# EAGLE library part CP2102-GMR (library rfglow-esp32)
CP2102-GMR
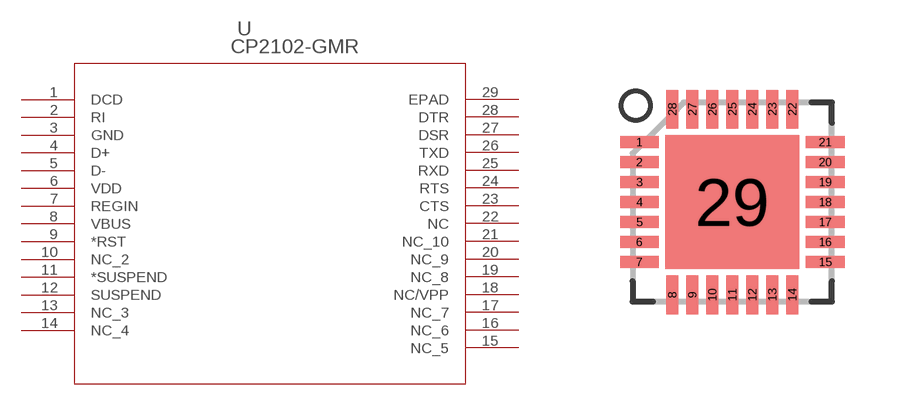
[diagram p3: symbol with the pads of QFN28_5X5; footprint QFN28_5X5]

Designator prefix U

## CP2102-GMR (AVAILABILITY: Unavailable; MF: Silicon; MPN: CP2102-GMR; PACKAGE: VFQFN-28 Vishay Siliconix; PRICE: None; URL: https://lcsc.com/product-detail/USB_SILICON-LABS_CP2102-GMR_CP2102-GMR_C6568.html)  [QFN28_5X5]
1  DCD  in
2  RI  in
3  GND  pwr
4  D+
5  D-
6  VDD  pwr
7  REGIN  in
8  VBUS  in
9  *RST
10  NC_2  nc
11  *SUSPEND  out
12  SUSPEND  out
13  NC_3  nc
14  NC_4  nc
15  NC_5  nc
16  NC_6  nc
17  NC_7  nc
18  NC/VPP
19  NC_8  nc
20  NC_9  nc
21  NC_10  nc
22  NC  nc
23  CTS  in
24  RTS  out
25  RXD  in
26  TXD  out
27  DSR  in
28  DTR  out
29  EPAD  pas

## Footprint QFN28_5X5 (pad centres in mm)
smd 0.965 x 0.305: 1 -2.324,1.5; 2 -2.324,1; 3 -2.324,0.5; 4 -2.324,0; 5 -2.324,-0.5; 6 -2.324,-1; 7 -2.324,-1.5; 15 2.324,-1.5; 16 2.324,-1; 17 2.324,-0.5; 18 2.324,0; 19 2.324,0.5; 20 2.324,1; 21 2.324,1.5
smd 0.305 x 0.965: 8 -1.5,-2.324; 9 -1,-2.324; 10 -0.5,-2.324; 11 0,-2.324; 12 0.5,-2.324; 13 1,-2.324; 14 1.5,-2.324; 22 1.5,2.324; 23 1,2.324; 24 0.5,2.324; 25 0,2.324; 26 -0.5,2.324; 27 -1,2.324; 28 -1.5,2.324
smd 3.353 x 3.353: 29 0,0